# EAGLE library part TPS61200 (library dooba)
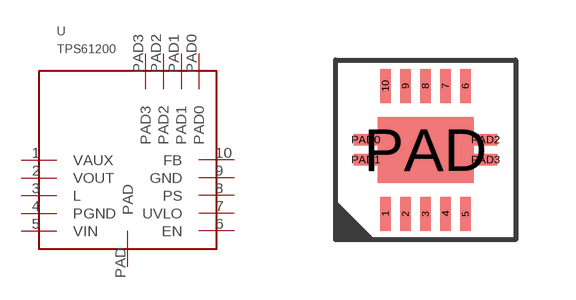
[diagram p15: symbol with the pads of S-PVSON-N10; footprint S-PVSON-N10]

Designator prefix U

## TPS61200S-PVSON-N10  [S-PVSON-N10]
1  VAUX
2  VOUT
3  L
4  PGND
5  VIN
6  EN
7  UVLO
8  PS
9  GND
10  FB
PAD  PAD
PAD0  PAD0
PAD1  PAD1
PAD2  PAD2
PAD3  PAD3

## Footprint S-PVSON-N10 (pad centres in mm)
smd 0.26 x 0.85: 1 -1,-1.6; 2 -0.5,-1.6; 3 0,-1.6; 4 0.5,-1.6; 5 1,-1.6; 6 1,1.6; 7 0.5,1.6; 8 0,1.6; 9 -0.5,1.6; 10 -1,1.6
smd 2.4 x 1.65: PAD 0,0
smd 0.6 x 0.28: PAD0 -1.499,0.25; PAD1 -1.499,-0.25; PAD2 1.499,0.25; PAD3 1.499,-0.25